# Altium footprint library Connectors.PcbLib: 15 footprints
Each footprint in its own frame and in the unit in brackets; x right, y up, seen from the top. Pads: shape width x height; smd on the part's side, far side on the other; paste and mask are expansions set on the pad; w line width, h text height; cw(c..) or ccw(c..) is an arc to the next point about the centre after c.
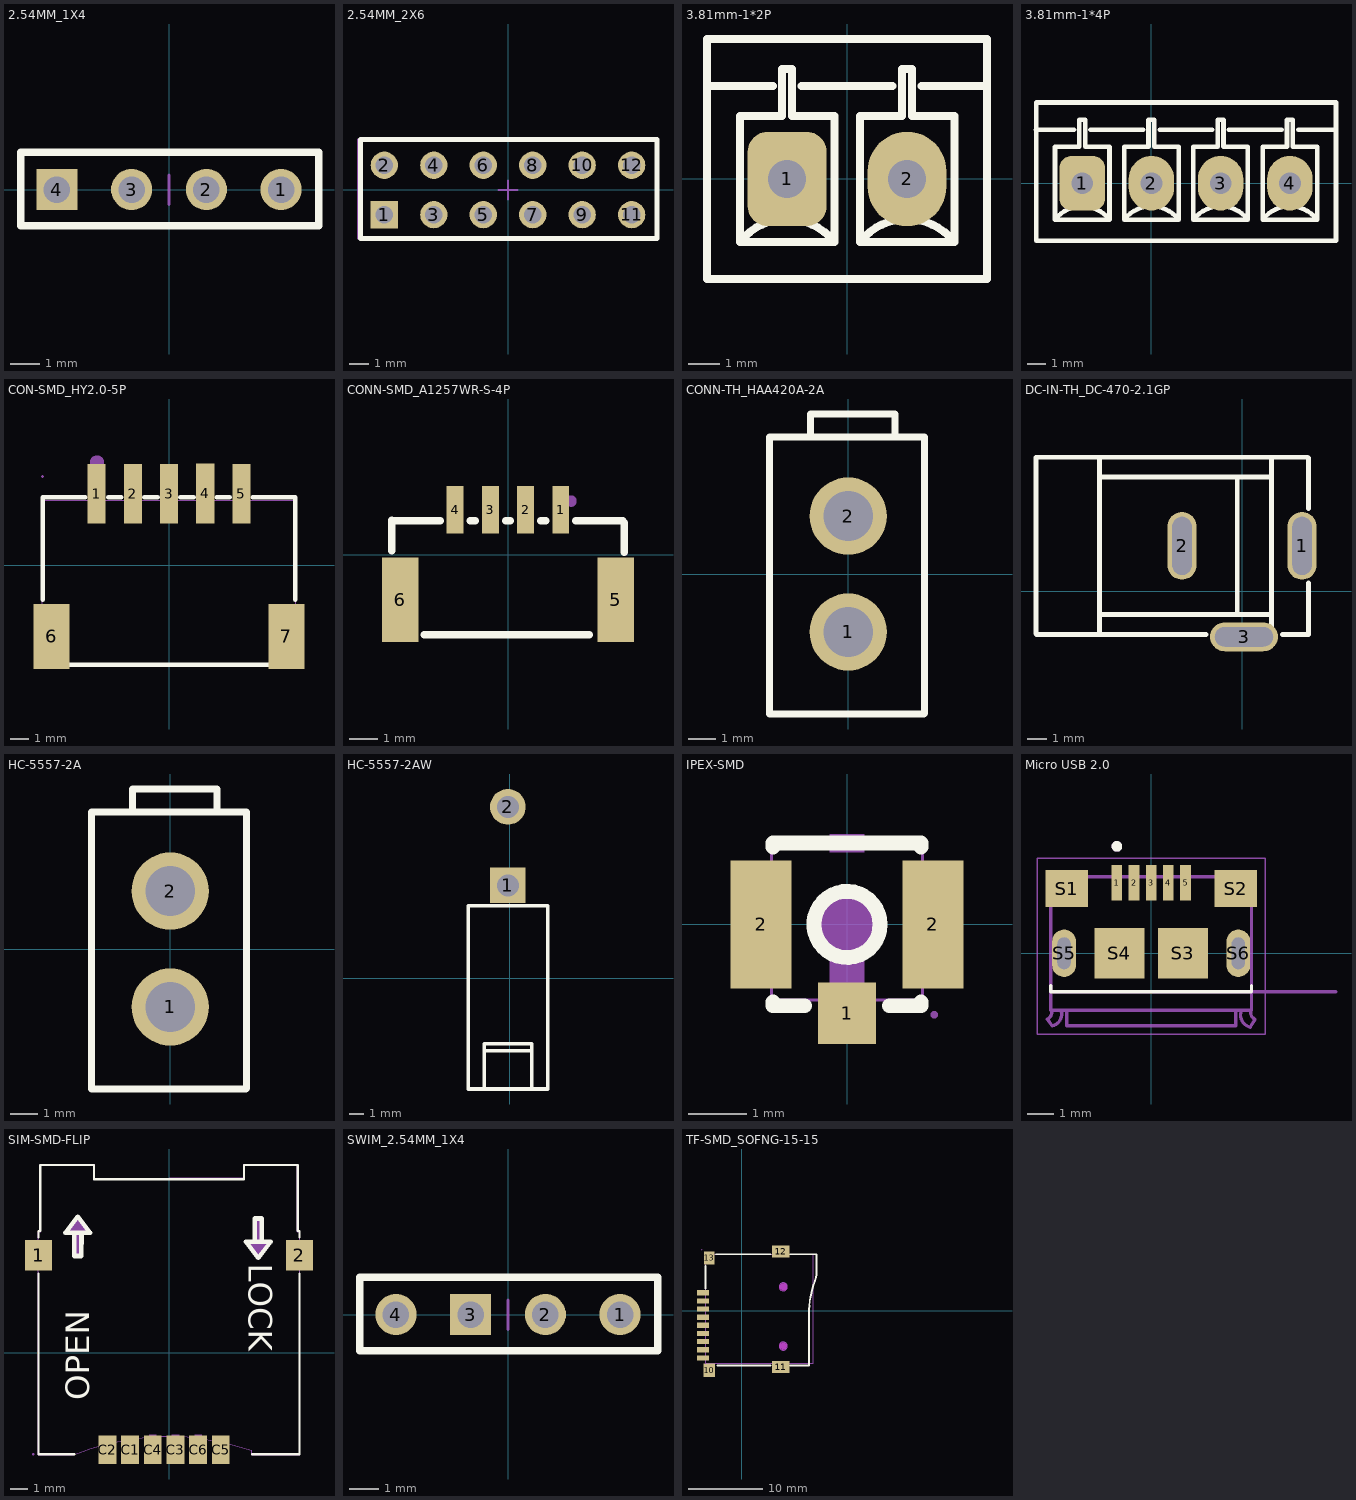
[diagram p0: the footprints below, top view; thin cyan lines are the x and y axes]

## 2.54MM_1X4 [mm]
height 1.45
pads (4):
  round 1.4 hole 0.9: 1(3.81,0) 2(1.27,0) 3(-1.27,0)
  rect 1.4x1.4 hole 0.9: 4(-3.81,0)
Top Overlay:
  lines w0.254: -5.04,-1.23 -5.04,1.27 5.09,1.27 5.09,-1.23 -5.04,-1.23
Mechanical 15:
  lines w0.1: -0.5,1.27 0.5,1.27 ; 0,-0.5 0,0.5 ; -5.1,-1.23 -5.1,1.27 5.1,1.27 5.1,-1.23 -5.1,-1.23

## 2.54MM_2X6 [mm]
height 1.45
pads (12):
  rect 1.4x1.4 hole 0.9: 1(-6.35,-1.27)
  round 1.4 hole 0.9: 2(-6.35,1.27) 3(-3.81,-1.27) 4(-3.81,1.27) 5(-1.27,-1.27) 6(-1.27,1.27) 7(1.27,-1.27) 8(1.27,1.27) 9(3.81,-1.27) 10(3.81,1.27) 11(6.35,-1.27) 12(6.35,1.27)
Top Overlay:
  lines w0.254: -7.58,-2.5 7.65,-2.5 7.65,2.6 -7.58,2.6 -7.58,-2.5
Mechanical 15:
  lines w0.1: -0.5,0 0.5,0 ; 0,-0.5 0,0.5 ; -7.7,-2.5 7.7,-2.5 7.7,2.6 -7.7,2.6 -7.7,-2.5
3D body "HEADER 2.54-2X12.stp": height 8.6, standoff -2.9, extent -7.62,-2.5 7.62,2.58

## 3.81mm-1*2P [mm]
height 1.45
pads (2):
  rrect50% 2.5x3 hole 1.2: 1(-1.905,0)
  oval 2.5x3 hole 1.2: 2(1.905,0)
Top Overlay:
  lines w0.111: -4.445,4.445 ccw(c-4.445,4.445) -4.445,4.445
  lines w0.2: 4.445,-3.175 ccw(c4.445,-3.175) 4.445,-3.175
  lines w0.254: -4.45,2.95 -2.36,2.95 ; -1.45,2.95 1.45,2.95 ; 2.36,2.95 4.43,2.95 ; -3.405,-2 cw(c-1.905,-3.175) -0.405,-2 ; -3.405,-2 -3.405,0 -3.405,2 -2.065,2 -2.065,3.5 -1.745,3.5 -1.745,2 -0.405,2 -0.405,-2 ; -3.405,-2 -0.405,-2 ; 0.405,-2 cw(c1.905,-3.175) 3.405,-2 ; 0.405,-2 0.405,0 0.405,2 1.745,2 1.745,3.5 2.065,3.5 2.065,2 3.405,2 3.405,-2 ; 0.405,-2 3.405,-2 ; 4.445,-3.175 4.445,4.445 -4.445,4.445 -4.445,-3.175 4.445,-3.175 ; 4.445,-3.175 4.445,-3.175
3D body "User Library-OQ0232500000G.STEP": height 9.21, standoff -3.49, extent -4.405,-2.755 4.405,4.445

## 3.81mm-1*4P [mm]
pads (4):
  rrect50% 2.5x3 hole 1.2: 1(-3.81,0)
  oval 2.5x3 hole 1.2: 2(0,0) 3(3.81,0) 4(7.62,0)
Top Overlay:
  lines w0.254: -6.355,2.95 -4.265,2.95 ; -3.355,2.95 -0.455,2.95 ; 0.455,2.95 3.355,2.95 ; 4.265,2.95 7.165,2.95 ; 8.075,2.95 10.145,2.95 ; -5.31,-2 cw(c-3.81,-3.175) -2.31,-2 ; -5.31,-2 -2.31,-2 ; -5.31,-2 -5.31,0 -5.31,2 -3.97,2 -3.97,3.5 -3.65,3.5 -3.65,2 -2.31,2 -2.31,-2 ; -1.5,-2 cw(c0,-3.175) 1.5,-2 ; -1.5,-2 1.5,-2 ; -1.5,-2 -1.5,0 -1.5,2 -0.16,2 -0.16,3.5 0.16,3.5 0.16,2 1.5,2 1.5,-2 ; 2.31,-2 cw(c3.81,-3.175) 5.31,-2 ; 2.31,-2 5.31,-2 ; 2.31,-2 2.31,0 2.31,2 3.65,2 3.65,3.5 3.97,3.5 3.97,2 5.31,2 5.31,-2 ; 6.12,-2 cw(c7.62,-3.175) 9.12,-2 ; 6.12,-2 9.12,-2 ; 6.12,-2 6.12,0 6.12,2 7.46,2 7.46,3.5 7.78,3.5 7.78,2 9.12,2 9.12,-2 ; 10.16,-3.175 10.16,-3.175 ; 10.16,-3.175 10.16,4.445 -6.35,4.445 -6.35,-3.175 10.16,-3.175
3D body "User Library-OQ0232500000G.STEP": height 9.21, standoff -3.49, extent 1.31,-2.882 10.12,4.318
3D body "User Library-OQ0232500000G.STEP": height 9.21, standoff -3.49, extent -6.31,-2.882 2.5,4.318

## CON-SMD_HY2.0-5P [mm]
pads (7):
  rect 1x3.3 smd paste+0 mask+0.05: 1(-4,3.95) 2(-2,3.95) 3(0,3.95) 4(2.007,3.962) 5(4,3.95)
  rect 2x3.6 smd paste+0 mask+0.05: 6(-6.5,-3.95) 7(6.5,-3.95)
Top Overlay:
  lines w0.254: -6.985,-1.919 -6.985,3.749 -4.631,3.749 ; -5.969,-5.522 5.969,-5.522 ; -3.369,3.749 -2.631,3.749 ; -1.369,3.749 -0.631,3.749 ; 0.631,3.749 1.369,3.749 ; 2.631,3.749 3.369,3.749 ; 4.631,3.749 6.985,3.749 6.985,-1.919
Mechanical 6:
  circle w0.4: c-3.984,5.668 r0.2
Mechanical 15:
  region: 6.6,-2.6 7,-2.6 7,-5.5 6.6,-5.5
  region: -7,-2.6 -6.6,-2.6 -6.6,-5.5 -7,-5.5
  region: -4.25,4.9 -3.75,4.9 -3.75,2.4 -4.25,2.4
  region: -2.25,4.9 -1.75,4.9 -1.75,2.4 -2.25,2.4
  region: -0.25,4.9 0.25,4.9 0.25,2.4 -0.25,2.4
  region: 1.75,4.9 2.25,4.9 2.25,2.4 1.75,2.4
  region: 3.75,4.9 4.25,4.9 4.25,2.4 3.75,2.4
  region: -6.94,4.9 -6.94,4.925 -6.975,4.96 -7.025,4.96 -7.06,4.925 -7.06,4.9 -7.06,4.875 -7.025,4.84 -6.975,4.84 -6.94,4.875
  lines w0.051: -7,-5.5 7,-5.5 7,3.6 -7,3.6 -7,-5.5
3D body "C722730_CONN-SMD_HY2.0-5P-WT.step": height 5.09, standoff -0.11, extent -6.949,-5.538 7.052,4.862

## CONN-SMD_A1257WR-S-4P [mm]
pads (6):
  rect 0.6x1.7 smd: 1(1.874,1.6) 2(0.625,1.6) 3(-0.625,1.6) 4(-1.875,1.6)
  rect 1.3x3 smd: 5(3.825,-1.6) 6(-3.825,-1.6)
Top Overlay:
  lines w0.254: -4.126,0.137 -4.126,1.226 ; -4.108,1.208 -2.406,1.208 ; -2.983,-2.838 2.895,-2.838 ; -1.344,1.208 -1.156,1.208 ; -0.094,1.208 0.094,1.208 ; 1.156,1.208 1.344,1.208 ; 2.405,1.208 4.074,1.208 4.129,1.153 4.129,0.083
Mechanical 15:
  circle w0.2: c2.24,1.907 r0.1
3D body "C225127_CONN-SMD_GH1.25-WS-4P_1.step": height 4.25, standoff -0.01, extent -4.155,-2.793 4.095,2.067

## CONN-TH_HAA420A-2A [mm]
pads (2):
  round 2.8 hole 1.8: 1(0,-2.101) 2(0,2.101)
Top Overlay:
  lines w0.254: -2.857,-5.072 2.743,-5.072 ; -2.845,-5.047 -2.845,4.953 ; -2.845,4.961 2.755,4.961 ; -1.372,5.049 -1.372,5.769 ; -1.372,5.799 1.688,5.799 1.688,5.049 ; 2.769,-5.047 2.769,4.953
3D body "C2845776_CONN-TH_HAA420A-2A.step": height 13, standoff -4, extent -3.004,-5.294 2.946,6.006

## DC-IN-TH_DC-470-2.1GP [mm]
pads (3):
  oval 1.5x3.5 hole 1 slot 3 at 90 deg: 1(3.1,2.35) 2(-3.1,2.35)
  oval 3.5x1.5 hole 1 slot 3 at 0 deg: 3(0.1,-2.35)
Top Overlay:
  lines w0.254: -7.36,-1.206 1.53,-1.206 ; -7.36,5.906 1.53,5.906 ; -1.873,-2.222 -7.36,-2.222 ; -0.248,-1.206 -0.248,5.906 ; 1.53,-2.222 1.53,6.922 ; 2.073,-2.222 3.42,-2.222 3.42,0.423 ; 3.42,4.277 3.42,6.882 3.38,6.922 -7.36,6.922 ; -7.36,-2.222 -7.36,6.922 ; -7.36,-2.222 -10.608,-2.222 -10.64,-2.19 -10.64,6.922 -7.36,6.922
3D body "C194407_DC-IN-TH_L14.0-W8.9-H10.9.step": height 11, standoff -4, extent -10.548,-2.26 3.452,7.04

## HC-5557-2A [mm]
pads (2):
  round 2.8 hole 1.8: 1(0,-2.101) 2(0,2.101)
Top Overlay:
  lines w0.254: -2.857,-5.072 2.743,-5.072 ; -2.845,-5.047 -2.845,4.953 ; -2.845,4.961 2.755,4.961 ; -1.372,5.049 -1.372,5.769 ; -1.372,5.799 1.688,5.799 1.688,5.049 ; 2.769,-5.047 2.769,4.953
3D body "C2845776_CONN-TH_HAA420A-2A.step": height 13, standoff -4, extent -3.004,-5.294 2.946,6.006

## HC-5557-2AW [mm]
pads (2):
  rect 2.5x2.5 hole 1.55: 1(-0.136,6.521)
  round 2.5 hole 1.55: 2(-0.136,12.021)
Top Overlay:
  lines w0.254: -1.778,-7.62 -1.778,-4.572 1.524,-4.572 1.524,-7.62 ; -1.778,-5.08 1.524,-5.08 ; -2.921,-7.747 2.667,-7.747 2.667,5.08 -2.921,5.08 -2.921,-7.747
3D body "C2845786_CONN-TH_2P-P4.20_5557-2X1AW.step": height 11.48, standoff -3.52, extent -2.827,-7.097 2.573,12.573

## IPEX-SMD [mm]
pads (3):
  rect 1x1.05 smd: 1(0,-1.525)
  rect 1.05x2.2 smd: 2(-1.475,0.001) 2(1.475,0.001)
Top Overlay:
  circle w0.254: c0,0.001 r0.568
  lines w0.254: -1.27,-1.331 -1.27,-1.397 -0.731,-1.397 ; -1.27,1.332 -1.27,1.398 -0.731,1.398 0.731,1.398 1.27,1.398 1.27,1.332 ; 0.731,-1.397 1.27,-1.397 1.27,-1.331
Mechanical 6:
  circle w0.2: c0,-1.777 r0.1
  region: 0,0.531 0.101,0.531 0.288,0.454 0.431,0.311 0.508,0.124 0.508,0.023 0.507,-0.035 0.478,-0.149 0.424,-0.253 0.347,-0.342 0.3,-0.377 0.3,-1.212 -0.3,-1.212 -0.3,-0.377 -0.347,-0.342 -0.424,-0.253 -0.478,-0.149 -0.507,-0.035 -0.508,0.023 -0.508,0.124 -0.431,0.311 -0.288,0.454 -0.101,0.531
Mechanical 15:
  region: -0.3,-1.199 0.3,-1.199 0.3,-1.549 -0.3,-1.549
  region: 0,0.531 0.101,0.531 0.288,0.454 0.431,0.311 0.508,0.124 0.508,0.023 0.507,-0.035 0.478,-0.149 0.424,-0.253 0.347,-0.342 0.3,-0.377 0.3,-1.212 -0.3,-1.212 -0.3,-0.377 -0.347,-0.342 -0.424,-0.253 -0.478,-0.149 -0.507,-0.035 -0.508,0.023 -0.508,0.124 -0.431,0.311 -0.288,0.454 -0.101,0.531
  region: -0.3,1.238 -0.3,1.55 0.3,1.55 0.3,1.238
  region: 1.5,0.901 1.5,-0.899 1.1,-0.899 1.1,0.901
  region: -1.1,0.901 -1.1,-0.899 -1.5,-0.899 -1.5,0.901
  region: 1.5,-1.489 1.475,-1.49 1.44,-1.525 1.44,-1.574 1.475,-1.61 1.5,-1.61 1.525,-1.61 1.56,-1.574 1.56,-1.525 1.525,-1.489
  lines w0.051: -1.3,-1.299 1.3,-1.299 1.3,1.301 -1.3,1.301 -1.3,-1.299
3D body "I-PEX MHF_7 Recepticle.STEP": height -0.42, standoff -0.96, extent -1,-1.1 1,1

## Micro USB 2.0 [mm]
height 2.55
pads (11):
  rect 0.4x1.35 smd: 1(-1.3,2.675) 2(-0.65,2.675) 3(0,2.675) 4(0.65,2.675) 5(1.3,2.675)
  rect 1.6x1.4 smd: S1(-3.2,2.45) S2(3.2,2.45)
  rect 1.9x1.9 smd: S3(1.2,0) S4(-1.2,0)
  oval 0.9x1.8 hole 0.5 slot 1.2 at 90 deg: S5(-3.3,0) S6(3.3,0)
Top Overlay:
  circle w0.2: c-1.3,4.05 r0.1
  lines w0.127: -3.8,-1.22 -3.8,-1.45 3.8,-1.45 3.8,-1.22
Mechanical 13:
  circle w0.2: c-1.3,4.05 r0.1
  lines w0.127: -3.93,-2.5 -3.75,-2.75 ; -3.93,-2.5 ccw(c-4.065,-2.235) -3.8,-2.1 ; -3.8,-1.45 3.8,-1.45 ; -3.746,-2.749 ccw(c-3.85,-2.3) -3.401,-2.196 ; -3.2,-2.2 -3.2,-2.75 3.2,-2.75 3.2,-2.2 ; 3.401,-2.198 ccw(c3.875,-2.325) 3.748,-2.799 ; 3.75,-2.8 3.93,-2.5 ; 3.8,-2.1 ccw(c4.065,-2.235) 3.93,-2.5 ; 7,-1.45 3.8,-1.45 ; -3.8,-2.1 -3.8,-2.15 3.8,-2.15 3.8,-1.45 ; -3.8,-2.1 -3.8,2.9 3.8,2.9 3.8,-1.45
  text "PCB END" at 4.85,-1.2 h0.41
Mechanical 15:
  lines w0.05: -4.32,-3.066 -4.32,3.6 4.32,3.6 4.32,-3.066 -4.32,-3.066
3D body "step_temp.STEP": height 2.87, standoff -0.73, extent -3.928,-2.794 3.928,2.867

## SIM-SMD-FLIP [mm] "Flipable SMD Card Connector"
pads (8):
  rect 1.5x1.7 smd: 1(-7.3,5.44) 2(7.3,5.44)
  rect 1x1.6 smd: C1(-2.18,-5.44) C2(-3.45,-5.44) C3(0.36,-5.44) C4(-0.91,-5.44) C5(2.9,-5.44) C6(1.63,-5.44)
Top Overlay:
  lines w0.127: -7.3,4.422 -7.3,-5.7 -5.3,-5.7 ; -7.3,6.458 -7.3,6.8 -7.2,6.8 -7.2,10.5 -4.2,10.5 -4.2,9.7 4.2,9.7 4.2,10.5 7.2,10.5 7.2,6.8 7.3,6.8 7.3,6.458 ; 4.65,-5.7 7.3,-5.7 7.3,4.422
  lines w0.254: -5.302,6.701 -5.3,5.401 -4.9,5.401 -4.898,6.701 ; -5.274,6.701 -4.883,6.701 ; 4.783,6.199 5.174,6.199 ; 4.798,6.199 4.8,7.499 5.2,7.499 5.202,6.199 ; -5.798,6.701 -5.1,7.6 -4.399,6.701 -5.798,6.701 ; 4.299,6.199 5.698,6.199 5,5.3 4.299,6.199
  text "OPEN" at -4.451,-2.671 h1.32
  text "LOCK" at 4.451,4.971 h1.32
Mechanical 6:
  region: -5.8,6.7 -5.1,7.6 -4.4,6.7
  region: -5.3,6.7 -5.3,5.4 -4.9,5.4 -4.9,6.7
  region: 4.3,6.2 5,5.3 5.7,6.2
  region: 4.8,7.5 5.2,7.5 5.2,6.2 4.8,6.2
  region: -7.15,10.55 -7.15,10.45 -4.25,10.45 -4.25,9.65 4.25,9.7 4.25,10.45 7.2,10.45 7.2,10.55 4.15,10.55 4.15,9.8 -4.15,9.75 -4.15,10.55
Mechanical 15:
  region: -7.54,-5.7 -7.54,-5.675 -7.575,-5.64 -7.625,-5.64 -7.66,-5.675 -7.66,-5.7 -7.66,-5.725 -7.625,-5.76 -7.575,-5.76 -7.54,-5.725
  region: -7.6,5.84 -6.6,5.84 -6.6,5.04 -7.6,5.04
  region: 7.6,5.04 6.6,5.04 6.6,5.84 7.6,5.84
  region: 3.1,-5.09 3.1,-5.79 2.7,-5.79 2.7,-5.09
  region: 1.83,-5.09 1.83,-5.79 1.43,-5.79 1.43,-5.09
  region: 0.56,-4.605 0.56,-5.305 0.16,-5.305 0.16,-4.605
  region: -0.71,-5.09 -0.71,-5.79 -1.11,-5.79 -1.11,-5.09
  region: -1.98,-5.09 -1.98,-5.79 -2.38,-5.79 -2.38,-5.09
  region: -3.25,-5.09 -3.25,-5.79 -3.65,-5.79 -3.65,-5.09
  region: 0.56,-5.09 0.56,-5.79 0.16,-5.79 0.16,-5.09
  region: 1.83,-4.605 1.83,-5.305 1.43,-5.305 1.43,-4.605
  region: -0.71,-4.605 -0.71,-5.305 -1.11,-5.305 -1.11,-4.605
  region: -1.98,-4.8 -1.98,-5.305 -2.38,-5.305 -2.38,-4.8
  region: 3.1,-4.9 3.1,-5.305 2.7,-5.305 2.7,-4.9
  region: -3.25,-5 -3.25,-5.305 -3.65,-5.305 -3.65,-5
  lines w0.051: -7.33,-5.73 -5.317,-5.73 -5.317,-5.729 -5.317,-5.72 -4.342,-5.365 -3.207,-5.047 -1.941,-4.823 -1.274,-4.74 -0.668,-4.697 -0.069,-4.682 0.602,-4.7 1.008,-4.713 1.872,-4.815 3.14,-5.04 4.64,-5.48 4.64,-5.73 7.33,-5.73 7.33,6.77 7.18,6.77 7.18,10.53 4.18,10.53 4.18,9.73 -4.18,9.73 -4.18,10.53 -7.18,10.529 -7.18,6.77 -7.33,6.769 -7.33,-5.73
3D body "C99403_SIM-SMD_SIM-01A.step": height 1.85, standoff 0.04, extent -7.58,-5.888 7.58,10.372

## SWIM_2.54MM_1X4 [mm]
height 1.45
pads (4):
  round 1.4 hole 0.9: 1(3.81,0) 2(1.27,0) 4(-3.81,0)
  rect 1.4x1.4 hole 0.9: 3(-1.27,0)
Top Layer:
  text "SW IM" at -1.524,1.651 h0.76
Top Overlay:
  lines w0.254: -5.04,-1.23 5.09,-1.23 5.09,1.27 -5.04,1.27 -5.04,-1.23
Top Solder:
  text "SW IM" at -1.524,1.651 h0.76
Mechanical 15:
  lines w0.1: -0.5,1.27 0.5,1.27 ; 0,-0.5 0,0.5 ; -5.1,-1.23 5.1,-1.23 5.1,1.27 -5.1,1.27 -5.1,-1.23

## TF-SMD_SOFNG-15-15 [mil]
pads (13):
  rect 63x27.6 smd: 1(-206.75,96.45) 2(-206.75,53.15) 3(-206.75,9.84) 4(-206.75,-33.47) 5(-206.75,-76.77) 6(-206.75,-120.08) 7(-206.75,-163.39) 8(-206.75,-206.7) 9(-206.75,-250)
  rect 63x70.87 smd: 10(-173.17,-314.96)
  rect 94.49x62.99 smd: 11(206.75,-299.22) 12(206.75,314.96)
  rect 55.1x70.9 smd: 13(-173.15,281.51)
Top Overlay:
  lines w10: -193.15,117.87 -193.15,239.87 ; -138.15,300.87 152.85,300.87 ; -130.15,-290.13 152.85,-290.13 ; 255.85,-290.13 356.85,-290.13 356.85,-17.13 ; 255.85,300.87 397.85,300.87 ; 356.85,-16.66 cw(c856.85,-16.66) 389.6,161.34 ccw(c286.28,200.7) 396.85,200.7 ; 396.85,200.87 396.85,299.87
Keep-Out Layer:
  board cut-out: 242.18,-187.01 242.13,-182.74 238.78,-174.89 232.7,-168.89 224.8,-165.65 216.26,-165.65 208.36,-168.89 202.28,-174.89 198.94,-182.74 198.88,-187.01 198.94,-191.28 202.29,-199.14 208.37,-205.13 216.26,-208.37 224.8,-208.37 232.7,-205.13 238.78,-199.13 242.13,-191.28
  board cut-out: 242.18,127.95 242.13,132.22 238.78,140.07 232.7,146.07 224.8,149.31 216.26,149.31 208.36,146.07 202.28,140.07 198.94,132.22 198.88,127.95 198.94,123.68 202.29,115.82 208.37,109.83 216.26,106.59 224.8,106.59 232.7,109.83 238.78,115.83 242.13,123.68
Mechanical 1:
  circle w0.2: c220.53,-187.01 r21.65
  circle w0.2: c220.53,127.95 r21.65
Mechanical 6:
  circle w17.72: c220.53,127.95 r8.86
  circle w17.72: c220.53,-187.01 r8.86
Mechanical 15:
  region: -210.28,324.78 -210.3,325.74 -211.68,327.09 -213.6,327.09 -214.98,325.74 -215,324.78 -214.98,323.81 -213.6,322.47 -211.67,322.47 -210.3,323.82
  region: -212.64,-244.09 -185.08,-244.09 -185.08,-255.91 -212.64,-255.91
  region: -212.64,-200.79 -185.08,-200.79 -185.08,-212.61 -212.64,-212.61
  region: -212.64,-157.48 -185.08,-157.48 -185.08,-169.3 -212.64,-169.3
  region: -212.64,-114.17 -185.08,-114.17 -185.08,-125.99 -212.64,-125.99
  region: -212.64,-70.86 -185.08,-70.86 -185.08,-82.68 -212.64,-82.68
  region: -212.64,-27.56 -185.08,-27.56 -185.08,-39.38 -212.64,-39.38
  region: -212.64,15.75 -185.08,15.75 -185.08,3.93 -212.64,3.93
  region: -212.64,59.06 -185.08,59.06 -185.08,47.24 -212.64,47.24
  region: -212.64,102.36 -185.08,102.36 -185.08,90.54 -212.64,90.54
  region: -190.98,301.19 -151.61,301.19 -151.61,261.82 -190.98,261.82
  region: -151.61,-277.55 -151.61,-316.92 -190.98,-316.92 -190.98,-277.55
  region: 175.25,-277.55 238.25,-277.55 238.25,-309.04 175.25,-309.04
  region: 238.25,293.29 175.25,293.29 175.25,324.78 238.25,324.78
  lines w2: -190.98,-279.51 -190.98,301.19 379.88,301.19 379.88,-279.51 -190.98,-279.51
Multi-Layer keep-out:
  region: 242.18,-187.01 242.13,-182.74 238.78,-174.89 232.7,-168.89 224.8,-165.65 216.26,-165.65 208.36,-168.89 202.28,-174.89 198.94,-182.74 198.88,-187.01 198.94,-191.28 202.29,-199.14 208.37,-205.13 216.26,-208.37 224.8,-208.37 232.7,-205.13 238.78,-199.13 242.13,-191.28
  region: 242.18,127.95 242.13,132.22 238.78,140.07 232.7,146.07 224.8,149.31 216.26,149.31 208.36,146.07 202.28,140.07 198.94,132.22 198.88,127.95 198.94,123.68 202.29,115.82 208.37,109.83 216.26,106.59 224.8,106.59 232.7,109.83 238.78,115.83 242.13,123.68
3D body "C111196_TF-SMD_TF-15-15.step": height 80.75, standoff -23.62, extent -217.99,-307.91 380.44,327.92